# Altium footprint library PCB - LEADED - SOIC - INFINEON SOIC-16 PG-DSO-16-11.PCBLIB: 1 footprints
Each footprint in its own frame and in the unit in brackets; x right, y up, seen from the top. Pads: shape width x height; smd on the part's side, far side on the other; paste and mask are expansions set on the pad; w line width, h text height; cw(c..) or ccw(c..) is an arc to the next point about the centre after c.
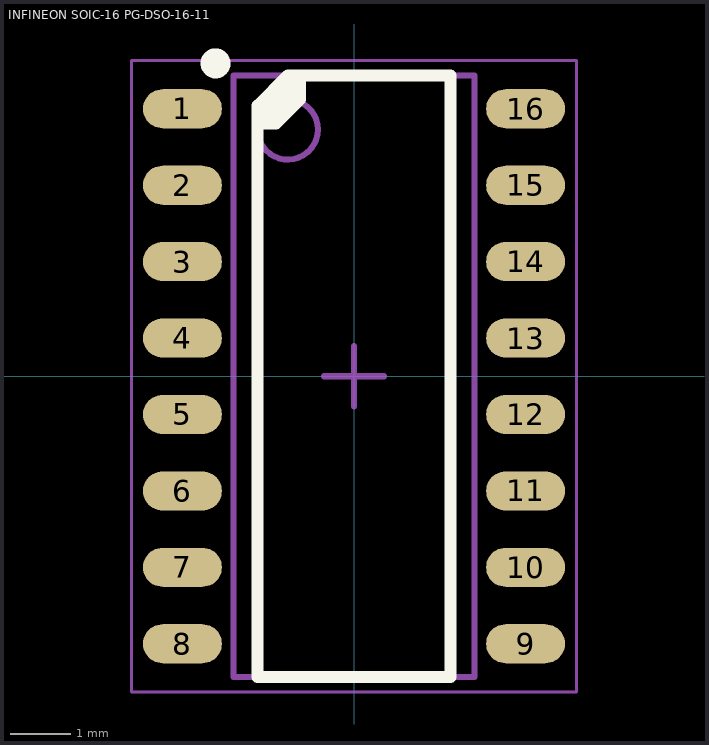
[diagram p0: the footprint, top view; thin cyan lines are the x and y axes]

## INFINEON SOIC-16 PG-DSO-16-11 [mm] "SOIC, 16-Leads, Body 9.90x3.90mm, Pitch 1.27mm, IPC Medium Density"
height 1.75
pads (16):
  oval 1.31x0.65 smd: 1(-2.85,4.445) 2(-2.85,3.175) 3(-2.85,1.905) 4(-2.85,0.635) 5(-2.85,-0.635) 6(-2.85,-1.905) 7(-2.85,-3.175) 8(-2.85,-4.445) 9(2.85,-4.445) 10(2.85,-3.175) 11(2.85,-1.905) 12(2.85,-0.635) 13(2.85,0.635) 14(2.85,1.905) 15(2.85,3.175) 16(2.85,4.445)
Top Overlay:
  circle w0.25: c-2.3,5.2 r0.125
  region: -1.6,4.2 -1.3,4.2 -0.9,4.6 -0.9,5 -1.096,5 -1.6,4.496
  lines w0.2: -1.6,4.2 -1.3,4.2 -0.9,4.6 -0.9,5 ; -1.6,-5 -1.6,4.496 -1.096,5 1.6,5 1.6,-5 -1.6,-5
Mechanical 13:
  circle w0.1: c-1.1,4.1 r0.5
  lines w0.1: -2,-5 -2,5 2,5 2,-5 -2,-5
Mechanical 15:
  lines w0.05: -3.7,-5.25 -3.7,5.25 3.7,5.25 3.7,-5.25 -3.7,-5.25
  lines w0.1: -0.5,0 0.5,0 ; 0,-0.5 0,0.5
3D body "INFINEON SOIC-16 PG-DSO-16-11.step": height 1.75, standoff 0, extent -3,-5 3,5